# Altium integrated library alps.IntLib: 1 symbol
Pins are listed as number, name and electrical type; pins without a type are passive.

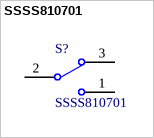
[diagram p0: symbol SSSS810701]

## SSSS810701
designator S?
1.4(H)mm, 1.5/2.0mm-travel Surface Mount Type SSSS8 Series
footprint SSSS810701
pins: 1, 2, 3